# EAGLE library part RASPBERRY_PICO_V1 (library RpiPico)
Raspberry Pi Pico
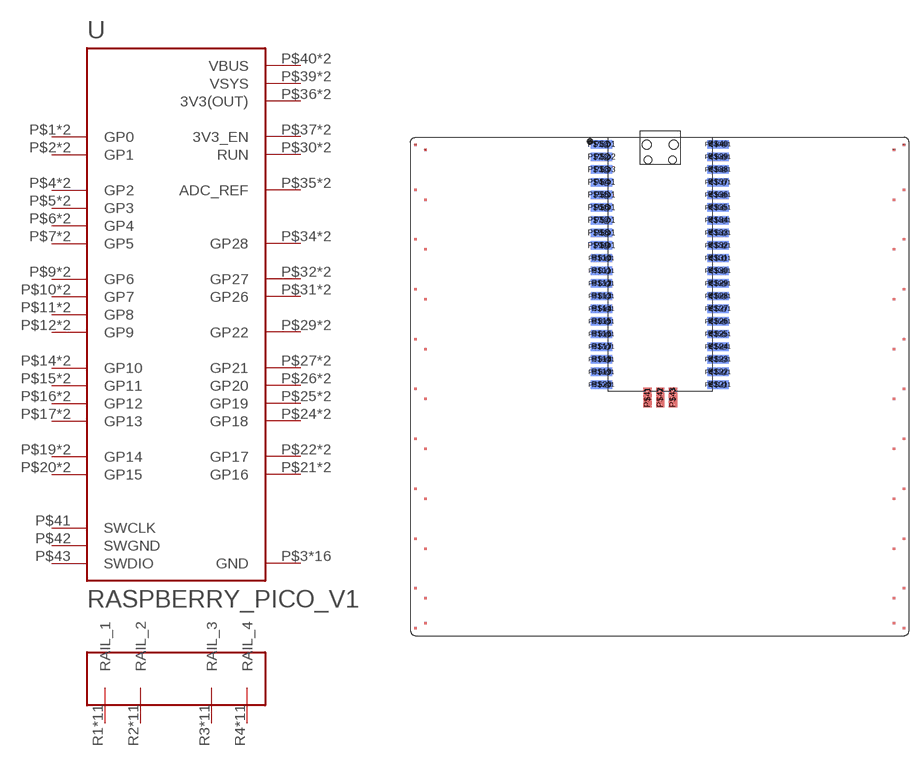
[diagram p4: symbol with the pads of PICO-FOR-V1; footprint PICO-FOR-V1]

Designator prefix U

## RASPBERRY_PICO_V1  [PICO-FOR-V1]
P$1  GP0
P$1@1  GP0
P$2  GP1
P$2@2  GP1
P$3  GND  pwr
P$3@3  GND  pwr
P$4  GP2
P$4@1  GP2
P$5  GP3
P$5@1  GP3
P$6  GP4
P$6@1  GP4
P$7  GP5
P$7@1  GP5
P$8  GND  pwr
P$8@1  GND  pwr
P$9  GP6
P$9@1  GP6
P$10  GP7
P$10@1  GP7
P$11  GP8
P$11@1  GP8
P$12  GP9
P$12@1  GP9
P$13  GND  pwr
P$13@1  GND  pwr
P$14  GP10
P$14@1  GP10
P$15  GP11
P$15@1  GP11
P$16  GP12
P$16@1  GP12
P$17  GP13
P$17@1  GP13
P$18  GND  pwr
P$18@1  GND  pwr
P$19  GP14
P$19@1  GP14
P$20  GP15
P$20@1  GP15
P$21  GP16
P$21@1  GP16
P$22  GP17
P$22@1  GP17
P$23  GND  pwr
P$23@1  GND  pwr
P$24  GP18
P$24@1  GP18
P$25  GP19
P$25@1  GP19
P$26  GP20
P$26@1  GP20
P$27  GP21
P$27@1  GP21
P$28  GND  pwr
P$28@1  GND  pwr
P$29  GP22
P$29@1  GP22
P$30  RUN  in
P$30@1  RUN  in
P$31  GP26
P$31@1  GP26
P$32  GP27
P$32@1  GP27
P$33  GND  pwr
P$33@1  GND  pwr
P$34  GP28
P$34@1  GP28
P$35  ADC_REF  in
P$35@1  ADC_REF  in
P$36  3V3(OUT)  pwr
P$36@1  3V3(OUT)  pwr
P$37  3V3_EN  in
P$37@1  3V3_EN  in
P$38  GND  pwr
P$38@1  GND  pwr
P$39  VSYS  pwr
P$39@1  VSYS  pwr
P$40  VBUS  pwr
P$40@1  VBUS  pwr
P$41  SWCLK  in
P$42  SWGND  pwr
P$43  SWDIO
R1  RAIL_1
R1.1  RAIL_1
R1.2  RAIL_1
R1.3  RAIL_1
R1.4  RAIL_1
R1.5  RAIL_1
R1.6  RAIL_1
R1.7  RAIL_1
R1.8  RAIL_1
R1.9  RAIL_1
R1.10  RAIL_1
R2  RAIL_2
R2.1  RAIL_2
R2.2  RAIL_2
R2.3  RAIL_2
R2.4  RAIL_2
R2.5  RAIL_2
R2.6  RAIL_2
R2.7  RAIL_2
R2.8  RAIL_2
R2.9  RAIL_2
R2.10  RAIL_2
R3  RAIL_3
R3.1  RAIL_3
R3.2  RAIL_3
R3.3  RAIL_3
R3.4  RAIL_3
R3.5  RAIL_3
R3.6  RAIL_3
R3.7  RAIL_3
R3.8  RAIL_3
R3.9  RAIL_3
R3.10  RAIL_3
R4  RAIL_4
R4.1  RAIL_4
R4.2  RAIL_4
R4.3  RAIL_4
R4.4  RAIL_4
R4.5  RAIL_4
R4.6  RAIL_4
R4.7  RAIL_4
R4.8  RAIL_4
R4.9  RAIL_4
R4.10  RAIL_4

## Footprint PICO-FOR-V1 (pad centres in mm)
smd 4.262 x 1.7: P$1 -11.678,23.63; P$2 -11.678,21.09; P$3 -11.678,18.55; P$4 -11.678,16.01; P$5 -11.678,13.47; P$6 -11.678,10.93; P$7 -11.678,8.39; P$8 -11.678,5.85; P$9 -11.678,3.31; P$10 -11.678,0.77; P$11 -11.678,-1.77; P$12 -11.678,-4.31; P$13 -11.678,-6.85; P$14 -11.678,-9.39; P$15 -11.678,-11.93; P$16 -11.678,-14.47; P$17 -11.678,-17.01; P$18 -11.678,-19.55; P$19 -11.678,-22.09; P$20 -11.678,-24.63; P$21 11.675,-24.63; P$22 11.675,-22.09; P$23 11.675,-19.55; P$24 11.675,-17.01; P$25 11.675,-14.47; P$26 11.675,-11.93; P$27 11.675,-9.39; P$28 11.675,-6.85; P$29 11.675,-4.31; P$30 11.675,-1.77; P$31 11.675,0.77; P$32 11.675,3.31; P$33 11.675,5.85; P$34 11.675,8.39; P$35 11.675,10.93; P$36 11.675,13.47; P$37 11.675,16.01; P$38 11.675,18.55; P$39 11.675,21.09; P$40 11.675,23.63
smd 4.262 x 1.7 bottom: P$1@1 -11.678,23.63; P$2@2 -11.678,21.09; P$3@3 -11.678,18.55; P$4@1 -11.678,16.01; P$5@1 -11.678,13.47; P$6@1 -11.678,10.93; P$7@1 -11.678,8.39; P$8@1 -11.678,5.85; P$9@1 -11.678,3.31; P$10@1 -11.678,0.77; P$11@1 -11.678,-1.77; P$12@1 -11.678,-4.31; P$13@1 -11.678,-6.85; P$14@1 -11.678,-9.39; P$15@1 -11.678,-11.93; P$16@1 -11.678,-14.47; P$17@1 -11.678,-17.01; P$18@1 -11.678,-19.55; P$19@1 -11.678,-22.09; P$20@1 -11.678,-24.63; P$21@1 11.675,-24.63; P$22@1 11.675,-22.09; P$23@1 11.675,-19.55; P$24@1 11.675,-17.01; P$25@1 11.675,-14.47; P$26@1 11.675,-11.93; P$27@1 11.675,-9.39; P$28@1 11.675,-6.85; P$29@1 11.675,-4.31; P$30@1 11.675,-1.77; P$31@1 11.675,0.77; P$32@1 11.675,3.31; P$33@1 11.675,5.85; P$34@1 11.675,8.39; P$35@1 11.675,10.93; P$36@1 11.675,13.47; P$37@1 11.675,16.01; P$38@1 11.675,18.55; P$39@1 11.675,21.09; P$40@1 11.675,23.63
smd 1.7 x 4.008: P$41 -2.44,-27.203; P$42 0.1,-27.203; P$43 2.64,-27.203
smd 0.5 x 0.5: R1 -49,23.5; R1.1 -49,14.5; R1.2 -49,4.5; R1.3 -49,-5.5; R1.4 -49,-15.5; R1.5 -49,-25.5; R1.6 -49,-35.5; R1.7 -49,-45.5; R1.8 -49,-55.5; R1.9 -49,-65.5; R1.10 -49,-73.5; R2 -47,22.5; R2.1 -47,12.5; R2.2 -47,2.5; R2.3 -47,-7.5; R2.4 -47,-17.5; R2.5 -47,-27.5; R2.6 -47,-37.5; R2.7 -47,-47.5; R2.8 -47,-57.5; R2.9 -47,-67.5; R2.10 -47,-72.5; R3 47,22.5; R3.1 47,12.5; R3.2 47,2.5; R3.3 47,-7.5; R3.4 47,-17.5; R3.5 47,-27.5; R3.6 47,-37.5; R3.7 47,-47.5; R3.8 47,-57.5; R3.9 47,-67.5; R3.10 47,-72.5; R4 49,23.5; R4.1 49,14.5; R4.2 49,4.5; R4.3 49,-5.5; R4.4 49,-15.5; R4.5 49,-25.5; R4.6 49,-35.5; R4.7 49,-45.5; R4.8 49,-55.5; R4.9 49,-65.5; R4.10 49,-73.5
hole 1.8 at -2.625,23.5
hole 1.8 at 2.825,23.5
hole 1.5 at -2.325,20.47
hole 1.5 at 2.525,20.47